# Altium footprint library fuse_20x5_on_clips_FC-M.PcbLib: 1 footprints
Each footprint in its own frame and in the unit in brackets; x right, y up, seen from the top. Pads: shape width x height; smd on the part's side, far side on the other; paste and mask are expansions set on the pad; w line width, h text height; cw(c..) or ccw(c..) is an arc to the next point about the centre after c.
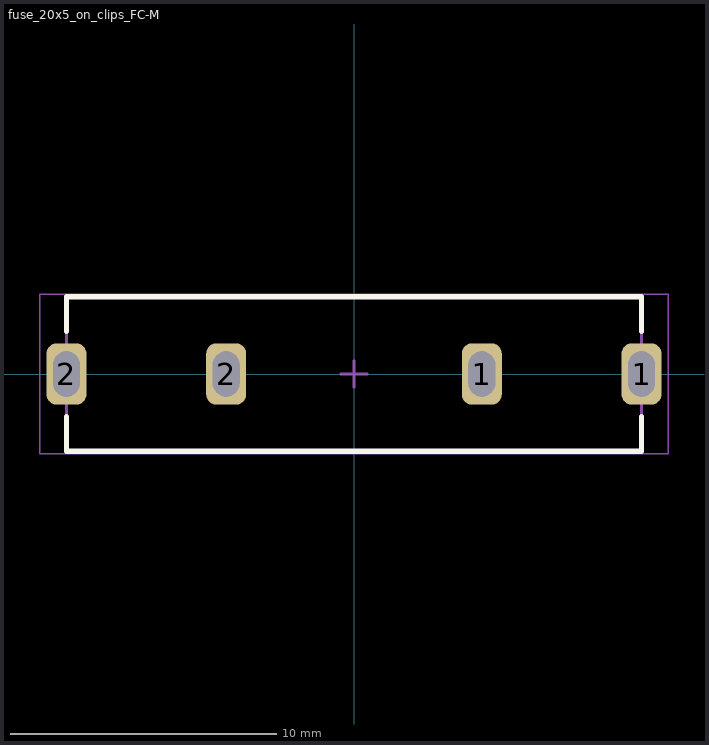
[diagram p0: the footprint, top view; thin cyan lines are the x and y axes]

## fuse_20x5_on_clips_FC-M [mm]
pads (4):
  rrect50% 1.5x2.3 hole 1 slot 1.7 at 90 deg: 1(4.8,0) 1(10.8,0) 2(-10.8,0) 2(-4.8,0)
Top Overlay:
  lines w0.2: -10.8,-1.6 -10.8,-2.9 10.8,-2.9 10.8,-1.6 ; -10.8,1.6 -10.8,2.9 10.8,2.9 10.8,1.6
Mechanical 13:
  lines w0.1: -10.8,-2.9 10.8,-2.9 10.8,2.9 -10.8,2.9 -10.8,-2.9
Mechanical 15:
  lines w0.05: -11.8,-3 -11.8,3 11.8,3 11.8,-3 -11.8,-3
  lines w0.1: -0.5,0 0.5,0 ; 0,-0.5 0,0.5
3D body "Fuse Holder.STEP": height 8.05, standoff -3.7, extent -10.8,-2.9 10.8,2.898